# Altium schematic symbol library ERJ-PB6D2201V.SchLib: 1 symbol
Pins are listed as number, name and electrical type; pins without a type are passive.

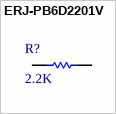
[diagram p0: symbol ERJ-PB6D2201V]

## ERJ-PB6D2201V
designator R?, comment 2.2K
RES SMD 2.2K OHM 0.5% 1/4W 0805; Manufacturer Part Number: ERJ-PB6D2201V; Manufacturer: Panasonic; Power (Watts): 0.25W, 1/4W; Temperature Coefficient: ±50ppm/°C; Supplier 1: Digi-Key; Family: Chip Resistor - Surface Mount; Series: ERJ; Packaging: Tape & Reel (TR); Part Status: Active; Resistance (Ohms): 2.2k; Tolerance: ±0.5%; Composition: Thick Film; Features: Automotive AEC-Q200, Pulse Withstanding; Operating Temperature: -55°C ~ 155°C; Package / Case: 0805 (2012 Metric); Supplier Device Package: 0805; Size / Dimension: 0.079" L x 0.049" W (2.00mm x 1.25mm); Height - Seated (Max): 0.028" (0.70mm); Number of Terminations: 2; Failure Rate: -; ComponentLink1URL: https://industrial.panasonic.com/sa/system/files/data/download/catalog/id_fixed-resistors_e_2.pdf; ComponentLink1Description: https://industrial.panasonic.com/sa/system/files/data/download/catalog/id_fixed-resistors_e_2.pdf; Supplier Part Number 1: P21055CT-ND; Stock 1: 3147; Pricing 1: 1=0.24, 10=0.204, 25=0.1488, 50=0.1078, 100=0.0799, 250=0.0614, 500=0.0483, 1000=0.0335 (USD); Category: Resistors
pins: 1, 2